# EAGLE library part EEPROM_24FC1025 (library SCADA_CUSTOM_LIBRARY)
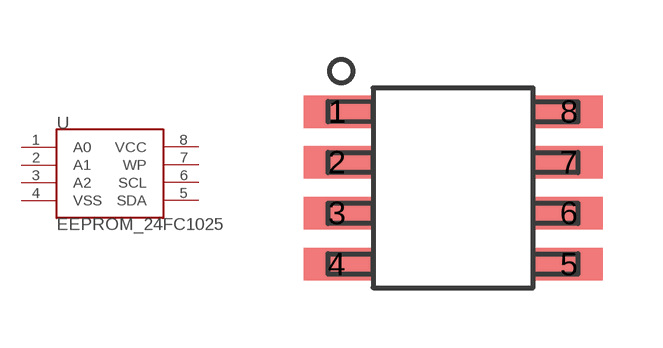
[diagram p13: symbol with the pads of 8-SOIC_HAND_SOLDER; footprint 8-SOIC_HAND_SOLDER]

Designator prefix U

## EEPROM_24FC1025  [8-SOIC_HAND_SOLDER]
1  A0  in
2  A1  in
3  A2  in
4  VSS  pas
5  SDA
6  SCL
7  WP  in
8  VCC  pas

## Footprint 8-SOIC_HAND_SOLDER (pad centres in mm)
smd 1.676 x 0.813: 1 -2.9,1.91; 2 -2.9,0.64; 3 -2.9,-0.63; 4 -2.9,-1.91; 5 2.9,-1.91; 6 2.9,-0.63; 7 2.9,0.64; 8 2.9,1.91